# Altium schematic symbol library AMC3311.SchLib: 1 symbol
Pins are listed as number, name and electrical type; pins without a type are passive.

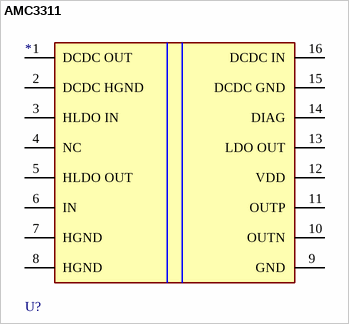
[diagram p0: symbol AMC3311]

## AMC3311
designator U?
AMC3311QDWERQ1 Automotive, 0 to 2-V input, precision reinforced isolated amplifier with integrated DC/DC converter 16-SOIC -40 to 125
pins: 1 DCDC OUT (power), 2 DCDC HGND (power), 3 HLDO IN (power), 4 NC, 5 HLDO OUT (power), 6 IN, 7 HGND (power), 8 HGND (power), 9 GND (power), 10 OUTN, 11 OUTP, 12 VDD (power), 13 LDO OUT (power), 14 DIAG (oc), 15 DCDC GND (power), 16 DCDC IN (power)